# Altium schematic symbol library mic5219.SchLib: 1 symbol
Pins are listed as number, name and electrical type; pins without a type are passive.

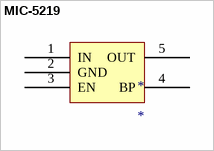
[diagram p0: symbol MIC-5219]

## MIC-5219
designator *
pins: 1 IN, 2 GND, 3 EN, 4 BP, 5 OUT